# Altium footprint library Con USB.PcbLib: 29 footprints (part 2 of 2)
Each footprint in its own frame and in the unit in brackets; x right, y up, seen from the top. Pads: shape width x height; smd on the part's side, far side on the other; paste and mask are expansions set on the pad; w line width, h text height; cw(c..) or ccw(c..) is an arc to the next point about the centre after c.
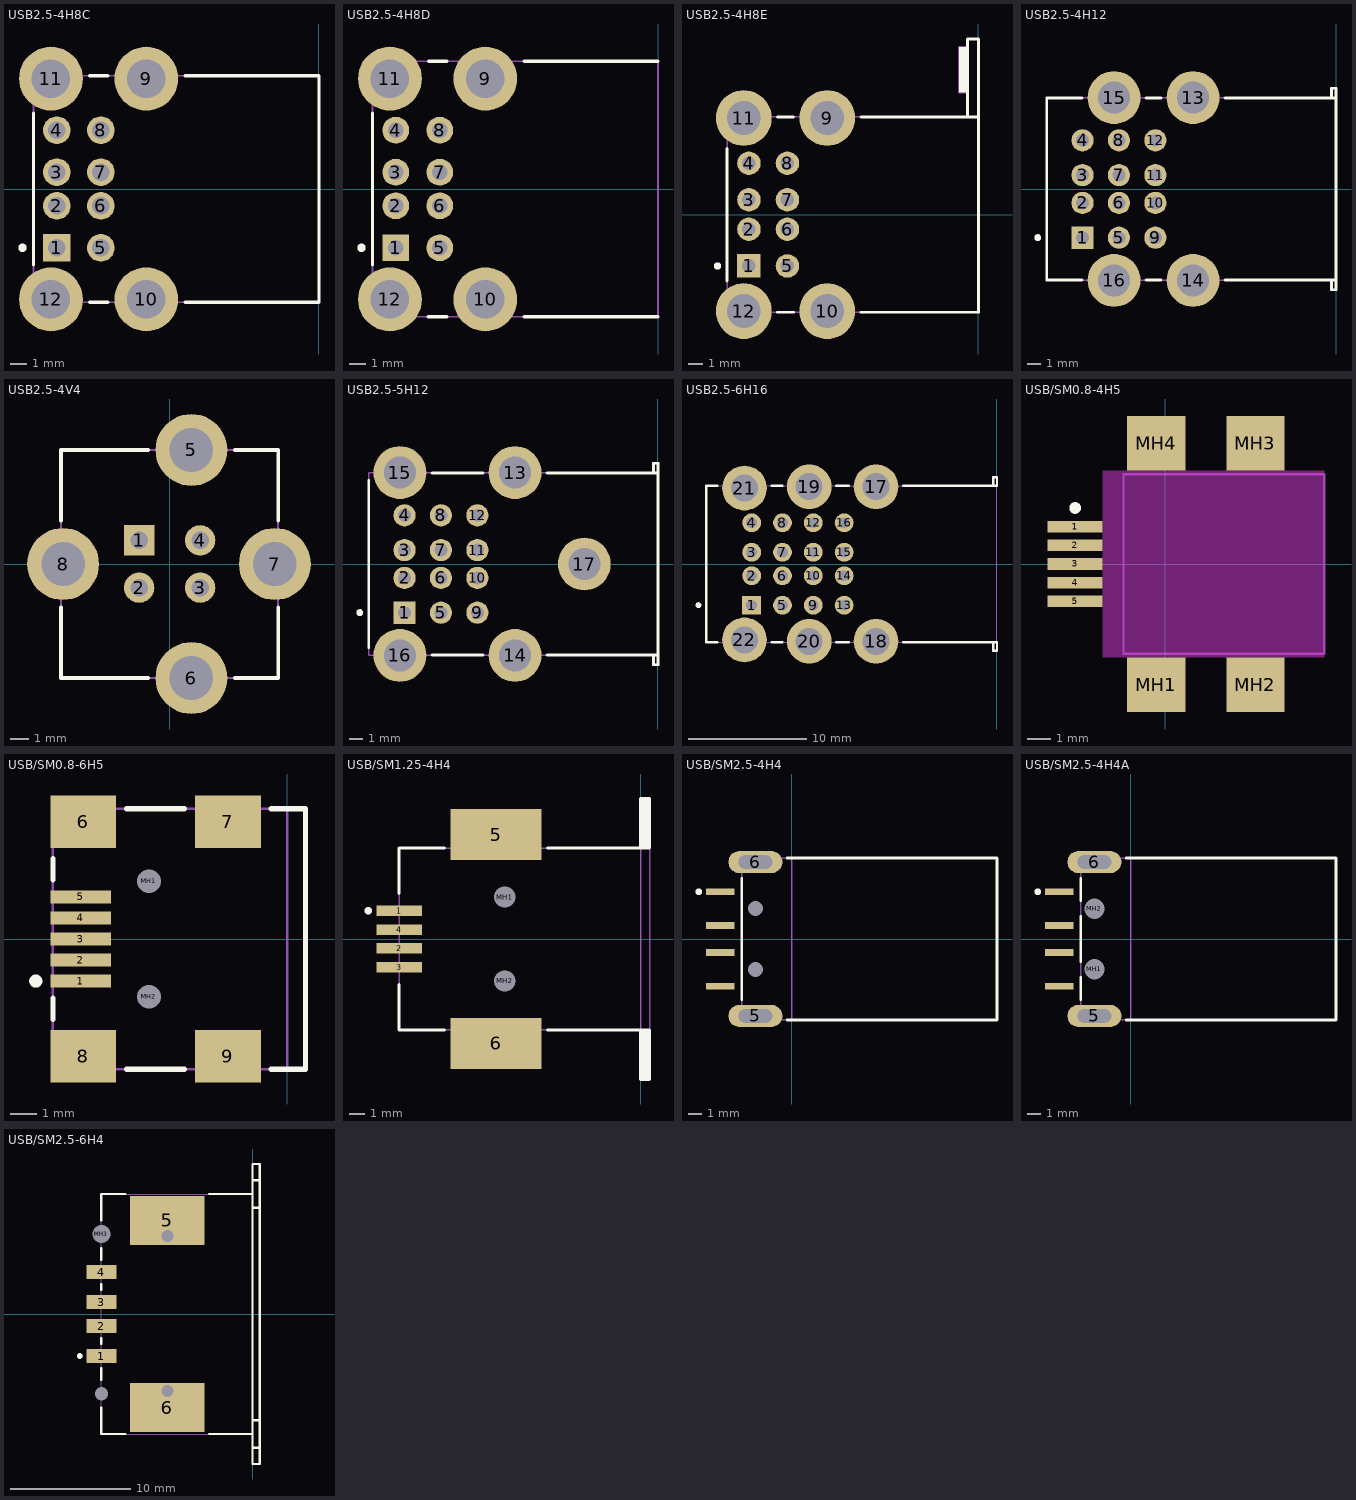
[diagram p1: the footprints below, top view; thin cyan lines are the x and y axes]

## USB2.5-4H8C [mm] "Connector; USB1.1, Type A, Thru-Hole; 4x4 Position; Right Angle"
height 15.82
pads (12):
  rect 1.65x1.65 hole 1.02: 1(-15.6,-3.5)
  round 1.65 hole 1.02: 2(-15.6,-1) 3(-15.6,1) 4(-15.6,3.5) 5(-12.98,-3.5) 6(-12.98,-1) 7(-12.98,1) 8(-12.98,3.5)
  round 3.8 hole 2.3: 9(-10.27,6.57) 10(-10.27,-6.57) 11(-15.95,6.57) 12(-15.95,-6.57)
Top Overlay:
  circle w0.25: c-17.64,-3.5 r0.125
  lines w0.2: -16.99,-4.51 -16.99,4.51 ; -13.65,-6.75 -12.57,-6.75 ; -13.65,6.75 -12.57,6.75 ; -7.97,-6.75 0.01,-6.75 0.01,6.75 -7.97,6.75
Mechanical 13:
  lines w0.1: -16.99,-6.75 -16.99,6.75 0.01,6.75 0.01,-6.75 -16.99,-6.75
3D body: height 15.82, standoff 0, extent -16.99,-6.75 0.01,6.75

## USB2.5-4H8D [mm] "Connector; USB1.1, Type A, Thru-Hole; 4x4 Position; Right Angle"
height 16.8
pads (12):
  rect 1.6x1.6 hole 0.92: 1(-15.61,-3.5)
  round 1.6 hole 0.92: 2(-15.61,-1) 3(-15.61,1) 4(-15.61,3.5) 5(-12.99,-3.5) 6(-12.99,-1) 7(-12.99,1) 8(-12.99,3.5)
  round 3.8 hole 2.3: 9(-10.28,6.57) 10(-10.28,-6.57) 11(-15.96,6.57) 12(-15.96,-6.57)
Top Overlay:
  circle w0.25: c-17.65,-3.5 r0.125
  lines w0.2: -17,-4.51 -17,4.51 ; -13.68,-7.6 -12.58,-7.6 ; -13.66,7.6 -12.58,7.6 ; -7.97,-7.6 0,-7.6 ; -7.97,7.6 0,7.6
Mechanical 1:
  lines w0.1: 0,-7.6 0,7.6
  text "PCB Edge" at -0.2,-7.29 h0.2
Mechanical 13:
  lines w0.1: -17,-7.6 -17,7.6 0,7.6 0,-7.6 -17,-7.6
3D body: height 16.8, standoff 0, extent -17,-7.6 0,7.6

## USB2.5-4H8E [mm] "Connector; USB1.1, Type A, Thru-Hole; 4x4 Position; Right Angle"
height 15.47
pads (12):
  rect 1.6x1.6 hole 0.92: 1(-15.61,-3.5)
  round 1.6 hole 0.92: 2(-15.61,-1) 3(-15.61,1) 4(-15.61,3.5) 5(-12.99,-3.5) 6(-12.99,-1) 7(-12.99,1) 8(-12.99,3.5)
  round 3.8 hole 2.3: 9(-10.28,6.57) 10(-10.28,-6.57) 11(-15.96,6.57) 12(-15.96,-6.57)
Top Overlay:
  circle w0.25: c-17.75,-3.5 r0.125
  rectangle: -1.33,8.3 -0.75,11.42
  lines w0.2: -17.1,-4.51 -17.1,4.51 ; -13.68,-6.65 -12.58,-6.65 ; -13.66,6.65 -12.58,6.65 ; -7.97,-6.65 0,-6.65 0,6.65 ; -7.97,6.65 0,6.65 ; -0.75,6.65 -0.75,11.95 0,11.95 0,6.65
Mechanical 13:
  lines w0.1: -0.75,8.3 -1.33,8.3 -1.33,11.42 -0.75,11.42 ; -17.1,-6.65 0,-6.65 0,11.95 -0.75,11.95 -0.75,6.65 -17.1,6.65 -17.1,-6.65
3D body: height 15.47, standoff 0, extent -17.099,-6.649 -0.001,11.949
3D body: height 15.47, standoff 0, extent -1.329,8.301 -0.751,11.419

## USB2.5-4H12 [mm] "Connector; USB1.1, Type A, Thru-Hole; 4x4x4 Position; Right Angle"
height 23.9
pads (16):
  rect 1.6x1.6 hole 0.92: 1(-18.23,-3.5)
  round 1.6 hole 0.92: 2(-18.23,-1) 3(-18.23,1) 4(-18.23,3.5) 5(-15.61,-3.5) 6(-15.61,-1) 7(-15.61,1) 8(-15.61,3.5) 9(-12.99,-3.5) 10(-12.99,-1) 11(-12.99,1) 12(-12.99,3.5)
  round 3.8 hole 2.3: 13(-10.28,6.57) 14(-10.28,-6.57) 15(-15.96,6.57) 16(-15.96,-6.57)
Top Overlay:
  circle w0.25: c-21.45,-3.5 r0.125
  lines w0.2: -18.26,-6.55 -20.8,-6.55 -20.8,6.55 -18.26,6.55 ; -13.66,-6.55 -12.58,-6.55 ; -13.66,6.55 -12.58,6.55 ; -7.98,-6.55 0,-6.55 ; -7.98,6.55 0,6.55 ; -0.32,-6.55 -0.32,-7.25 0,-7.25 0,-6.55 ; -0.32,6.55 -0.32,7.25 0,7.25 0,6.55 ; 0,-6.55 0,6.55
Mechanical 13:
  lines w0.1: -20.8,-6.55 -20.8,6.55 -0.32,6.55 -0.32,7.25 0,7.25 0,-7.25 -0.32,-7.25 -0.32,-6.55 -20.8,-6.55
3D body: height 23.9, standoff 0, extent -20.799,-7.249 -0.001,7.249

## USB2.5-4V4 [mm] "Connector; USB1.1, Type B, Thru-Hole; 4 Position; Vertical"
height 15.62
pads (8):
  rect 1.6x1.6 hole 0.92: 1(-1.61,1.25)
  round 1.6 hole 0.92: 2(-1.61,-1.25) 3(1.61,-1.25) 4(1.61,1.25)
  round 3.8 hole 2.3: 5(1.15,6.02) 6(1.15,-6.02) 7(5.56,0) 8(-5.63,0)
Top Overlay:
  lines w0.2: -5.73,-2.3 -5.73,-6.02 -1.15,-6.02 ; -5.73,2.3 -5.73,6.02 -1.15,6.02 ; 3.45,-6.02 5.73,-6.02 5.73,-2.3 ; 3.45,6.02 5.73,6.02 5.73,2.3
Mechanical 13:
  lines w0.1: -5.73,-6.02 5.73,-6.02 5.73,6.02 -5.73,6.02 -5.73,-6.02
3D body: height 15.62, standoff 0, extent -5.73,-6.02 5.73,6.02

## USB2.5-5H12 [mm] "Connector; USB1.1, Type A, Thru-Hole; 4x4x4 Position; Right Angle"
height 23.9
pads (17):
  rect 1.6x1.6 hole 0.92: 1(-18.23,-3.5)
  round 1.6 hole 0.92: 2(-18.23,-1) 3(-18.23,1) 4(-18.23,3.5) 5(-15.61,-3.5) 6(-15.61,-1) 7(-15.61,1) 8(-15.61,3.5) 9(-12.99,-3.5) 10(-12.99,-1) 11(-12.99,1) 12(-12.99,3.5)
  round 3.8 hole 2.3: 13(-10.28,6.57) 14(-10.28,-6.57) 15(-18.56,6.57) 16(-18.56,-6.57) 17(-5.3,0)
Top Overlay:
  circle w0.25: c-21.45,-3.5 r0.125
  lines w0.2: -20.8,-6.03 -20.8,6.03 ; -16.26,-6.55 -12.58,-6.55 ; -16.26,6.55 -12.58,6.55 ; -7.98,-6.55 0,-6.55 ; -7.98,6.55 0,6.55 ; -0.32,-6.55 -0.32,-7.25 0,-7.25 0,-6.55 ; -0.32,6.55 -0.32,7.25 0,7.25 0,6.55 ; 0,-6.55 0,6.55
Mechanical 13:
  lines w0.1: -0.32,-7.25 -0.32,-6.55 -20.8,-6.55 -20.8,6.55 -0.32,6.55 -0.32,7.25 ; 0,-7.25 0,7.25
  lines w0.2: -0.32,-7.25 0,-7.25 ; -0.32,7.25 0,7.25
3D body: height 23.9, standoff 0, extent -20.799,-7.249 -0.001,7.249

## USB2.5-6H16 [mm] "Connector; USB1.1, Type A, Thru-Hole; 4x4x4x4 Position; Right Angle"
height 32.84
pads (22):
  rect 1.6x1.6 hole 0.92: 1(-20.85,-3.5)
  round 1.6 hole 0.92: 2(-20.85,-1) 3(-20.85,1) 4(-20.85,3.5) 5(-18.23,-3.5) 6(-18.23,-1) 7(-18.23,1) 8(-18.23,3.5) 9(-15.61,-3.5) 10(-15.61,-1) 11(-15.61,1) 12(-15.61,3.5) 13(-12.99,-3.5) 14(-12.99,-1) 15(-12.99,1) 16(-12.99,3.5)
  round 3.8 hole 2.3: 17(-10.28,6.57) 18(-10.28,-6.57) 19(-15.96,6.57) 20(-15.96,-6.57) 21(-21.46,6.45) 22(-21.46,-6.45)
Top Overlay:
  circle w0.25: c-25.37,-3.5 r0.125
  lines w0.2: -23.76,-6.65 -24.72,-6.65 -24.72,6.65 -23.76,6.65 ; -19.16,-6.65 -18.26,-6.65 ; -19.16,6.65 -18.26,6.65 ; -13.66,-6.65 -12.58,-6.65 ; -13.66,6.65 -12.58,6.65 ; -7.98,-6.65 0,-6.65 0,-7.37 -0.32,-7.37 -0.32,-6.65 ; -7.98,6.65 0,6.65 0,7.37 -0.32,7.37 -0.32,6.65
Mechanical 1:
  lines w0.1: 0,-6.65 0,6.65
  text "PCB Edge" at -0.258,-6.292 h0.2
Mechanical 13:
  lines w0.1: -0.32,-7.37 -0.32,-6.65 -24.72,-6.65 -24.72,6.65 -0.32,6.65 -0.32,7.37 ; 0,-7.37 0,7.37
  lines w0.2: -0.32,-7.37 0,-7.37 ; -0.32,7.37 0,7.37
3D body: height 32.84, standoff 0, extent -24.719,-7.369 -0.001,7.369

## USB/SM0.8-4H5 [mm] "Connector; USB Mini-B, Sinking Type, SM; 5 Position; Right Angle"
height 0.65
pads (9):
  rect 2.35x0.5 smd: 1(-3.862,1.6) 2(-3.862,0.8) 3(-3.862,0) 4(-3.862,-0.8) 5(-3.862,-1.6)
  rect 2.5x2.35 smd: MH1(-0.387,-5.175) MH2(3.863,-5.175) MH3(3.863,5.175) MH4(-0.387,5.175)
Top Overlay:
  circle w0.25: c-3.862,2.4 r0.125
Keep-Out Layer:
  rectangle: -2.687,-4 6.813,4
Mechanical 13:
  lines w0.1: -1.788,-3.85 6.813,-3.85 6.813,3.85 -1.788,3.85 -1.788,-3.85
3D body: height 0.65, standoff -3.25, extent -1.798,-3.838 6.801,3.861

## USB/SM0.8-6H5 [mm] "Connector; USB2.0, Type B, SM; 5 Position; Right Angle"
height 3.9
pads (11):
  rect 2.3x0.5 smd: 1(-7.85,-1.6) 2(-7.85,-0.8) 3(-7.85,0) 4(-7.85,0.8) 5(-7.85,1.6)
  rect 2.5x2 smd: 6(-7.75,4.45) 7(-2.25,4.45) 8(-7.75,-4.45) 9(-2.25,-4.45)
  round 0.6 hole 0.9 unplated: MH1(-5.25,2.2) MH2(-5.25,-2.2)
Top Overlay:
  circle w0.25: c-9.55,-1.6 r0.125
  lines w0.2: -8.9,-3.05 -8.9,-2.25 ; -8.9,2.25 -8.9,3.05 ; -6.1,-4.95 -3.9,-4.95 ; -6.1,4.95 -3.9,4.95 ; -0.6,-4.95 0.7,-4.95 0.7,4.95 -0.6,4.95
Mechanical 1:
  lines w0.1: 0,-4.95 0,4.95
  text "PCB Edge" at 0.432,-4.036 h0.25
Mechanical 13:
  lines w0.1: -8.9,-4.95 -8.9,4.95 0.7,4.95 0.7,-4.95 -8.9,-4.95
3D body: height 3.9, standoff 0, extent -8.9,-4.95 0.7,4.95

## USB/SM1.25-4H4 [mm] "Connector; USB1.1, Type B, SM; 4 Position; Right Angle"
height 11
pads (8):
  rect 3x0.7 smd: 1(-16,1.875) 2(-16,-0.625) 3(-16,-1.875) 4(-16,0.625)
  rect 6.04x3.4 smd: 5(-9.58,6.92) 6(-9.58,-6.92)
  round 1.1 hole 1.4 unplated: MH1(-9,2.775) MH2(-9,-2.775)
Top Overlay:
  circle w0.25: c-18.05,1.875 r0.125
  rectangle: 0,6.02 0.6,9.32
  rectangle: 0,-9.32 0.6,-6.02
  lines w0.2: -16,-3 -16,-6.02 -13,-6.02 ; -16,3 -16,6.02 -13,6.02 ; -6.16,-6.02 0,-6.02 ; -6.16,6.02 0,6.02 ; 0,-6.02 0,-9.32 0.6,-9.32 0.6,-6.02 0,-6.02 ; 0,6.02 0,9.32 0.6,9.32 0.6,6.02 0,6.02
Mechanical 1:
  lines w0.1: 0,-6.02 0,6.02
  text "PCB Edge" at -0.219,-5.75 h0.25
Mechanical 13:
  lines w0.1: 0,-6.02 0,-9.32 0.6,-9.32 0.6,9.32 0,9.32 0,6.02 ; 0.6,-6.02 -16,-6.02 -16,6.02 0.6,6.02
3D body: height 11, standoff 0, extent -15.999,-6.019 0.599,6.019
3D body: height 11, standoff 0, extent 0.001,-9.319 0.599,-6.021
3D body: height 11, standoff 0, extent 0.001,6.021 0.599,9.319

## USB/SM2.5-4H4 [mm] "Connector; USB1.1, Type A, SM; 4 Position; Right Angle"
height 4.5
pads (8):
  rect 2.1x0.5 smd: 1(-5.3,3.5) 2(-5.3,1) 3(-5.3,-1) 4(-5.3,-3.5)
  oval 4x1.65 hole 1 slot 2.5 at 0 deg: 5(-2.7,-5.7) 6(-2.7,5.7)
  round 0.8 hole 1.1 unplated: MH1(-2.7,-2.25) MH2(-2.7,2.25)
Top Overlay:
  circle w0.25: c-6.9,3.5 r0.125
  lines w0.2: -3.7,-4.475 -3.7,4.475 ; -0.33,-6 15.2,-6 15.2,6 -0.33,6
Mechanical 1:
  lines w0.1: 0,-6 0,6
  text "PCB Edge" at 0.473,-5.173 h0.25
Mechanical 13:
  lines w0.1: -3.7,-6 -3.7,6 15.2,6 15.2,-6 -3.7,-6
3D body: height 4.5, standoff 0, extent -3.7,-6 15.2,6

## USB/SM2.5-4H4A [mm] "Connector; USB1.1, Type A, SM; 4 Position; Right Angle"
height 4.5
pads (8):
  rect 2.1x0.5 smd: 1(-5.3,3.5) 2(-5.3,1) 3(-5.3,-1) 4(-5.3,-3.5)
  oval 4x1.65 hole 1 slot 2.5 at 0 deg: 5(-2.7,-5.7) 6(-2.7,5.7)
  round 1.2 hole 1.5 unplated: MH1(-2.7,-2.25) MH2(-2.7,2.25)
Top Overlay:
  circle w0.25: c-6.9,3.5 r0.125
  lines w0.2: -3.7,-4.475 -3.7,-2.83 ; -3.7,-1.68 -3.7,1.68 ; -3.7,2.83 -3.7,4.475 ; -0.33,-6 15.2,-6 15.2,6 -0.33,6
Mechanical 1:
  lines w0.1: 0,-6 0,6
  text "PCB Edge" at 0.473,-5.173 h0.25
Mechanical 13:
  lines w0.1: -3.7,-6 -3.7,6 15.2,6 15.2,-6 -3.7,-6
3D body: height 4.5, standoff 0, extent -3.7,-6 15.2,6

## USB/SM2.5-6H4 [mm] "Connector; USB1.1, Type A, SM; 4 Position; Right Angle"
height 7.8
pads (10):
  rect 2.5x1.2 smd: 1(-12.6,-3.5) 2(-12.6,-1) 3(-12.6,1) 4(-12.6,3.5)
  rect 6.2x4.1 smd: 5(-7.1,7.8) 6(-7.1,-7.8)
  round 0.7 hole 1 unplated: MH1(-7.1,6.496) MH2(-7.1,-6.404)
  round 1.2 hole 1.5 unplated: MH3(-12.6,6.65)
  round 0.8 hole 1.1 unplated: MH4(-12.6,-6.65)
Top Overlay:
  circle w0.25: c-14.4,-3.5 r0.125
  lines w0.2: -12.6,-7.8 -12.6,-10 -10.6,-10 ; -12.6,-5.5 -12.6,-4.5 ; -12.6,-2.5 -12.6,-2 ; -12.6,2 -12.6,2.5 ; -12.6,4.5 -12.6,5.5 ; -12.6,7.8 -12.6,10 -10.6,10 ; -3.6,-10 0,-10 ; -3.6,10 0,10 ; 0,-11.15 0.576,-11.15 ; 0,-8.85 0.6,-8.85 ; 0,8.85 0.588,8.85 ; 0,11.15 0.588,11.15 ; 0,-12.5 0.6,-12.5 0.6,12.5 0,12.5 0,-12.5
Mechanical 13:
  lines w0.1: -12.6,-10 -12.6,10 0,10 0,12.5 0.6,12.5 0.6,-12.5 0,-12.5 0,-10 -12.6,-10
3D body: height 7.8, standoff 0, extent -12.599,-12.499 0.599,12.499